# Altium schematic symbol library RNxxx.Schlib: 1 symbol
Pins are listed as number, name and electrical type; pins without a type are passive.

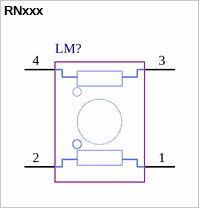
[diagram p0: symbol RNxxx]

## RNxxx
designator LM?  (value not drawn)
pins: 1, 2, 3, 4